# Altium footprint library PCB_Audio.PcbLib: 2 footprints
Each footprint in its own frame and in the unit in brackets; x right, y up, seen from the top. Pads: shape width x height; smd on the part's side, far side on the other; paste and mask are expansions set on the pad; w line width, h text height; cw(c..) or ccw(c..) is an arc to the next point about the centre after c.
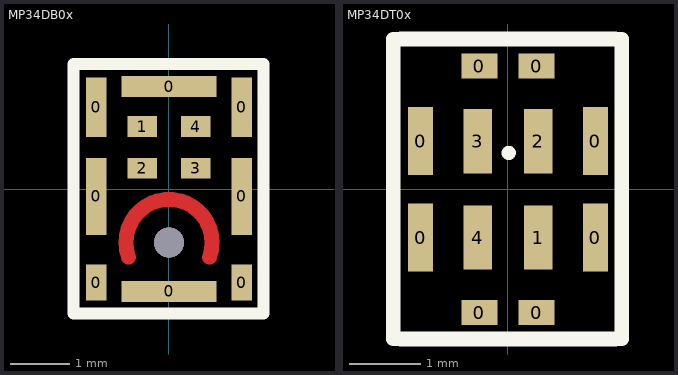
[diagram p0: the footprints below, top view; thin cyan lines are the x and y axes]

## MP34DB0x [mm] "ST MEMS microphone bottom hole 3*4mm series"
pads (12):
  rect 0.35x0.6 smd: 0(-1.225,-1.575) 0(1.225,-1.575)
  rect 0.35x1.3 smd: 0(-1.225,-0.125) 0(1.225,-0.125)
  rect 0.35x1 smd: 0(-1.225,1.375) 0(1.225,1.375)
  rect 1.6x0.35 smd: 0(0,-1.725) 0(0,1.725)
  rect 0.5x0.35 smd: 1(-0.45,1.05) 2(-0.45,0.35) 3(0.45,0.35) 4(0.45,1.05)
via 0,-0.9 diameter 0.5 hole 0.5
Top Layer:
  lines w0.25: -0.681,-1.148 cw(c0,-0.9) 0.681,-1.148
Top Overlay:
  lines w0.2: -1.608,-2 -1.608,-2.095 -1.5,-2.095 ; -1.608,2 -1.608,2.105 -1.5,2.105 ; 1.5,-2.095 1.592,-2.095 1.592,-2 ; 1.5,2.105 1.592,2.105 1.592,2
  lines w0.203: -1.608,-2 -1.608,2 ; -1.5,-2.095 1.5,-2.095 ; -1.5,2.105 1.5,2.105 ; 1.592,-2 1.592,2
3D body: height 1, standoff 0, extent -1.539,-2.022 1.509,2.042

## MP34DT0x [mm] "ST MEMS microphone top hole 3*4mm series"
pads (12):
  rect 0.35x0.95 smd: 0(-1.225,-0.675) 0(-1.225,0.675) 0(1.225,-0.675) 0(1.225,0.675)
  rect 0.5x0.35 smd: 0(-0.4,-1.725) 0(-0.4,1.725) 0(0.4,-1.725) 0(0.4,1.725)
  rect 0.4x0.9 smd: 1(0.425,-0.675) 2(0.425,0.675) 3(-0.425,0.675) 4(-0.425,-0.675)
Top Overlay:
  circle w0.1: c0.01,0.51 r0.05
  lines w0.2: -1.608,-2 -1.608,-2.095 -1.5,-2.095 ; -1.608,2 -1.608,2.105 -1.5,2.105 ; 1.5,-2.095 1.592,-2.095 1.592,-2 ; 1.5,2.105 1.592,2.105 1.592,2
  lines w0.203: -1.608,-2 -1.608,2 ; -1.5,-2.095 1.5,-2.095 ; -1.5,2.105 1.5,2.105 ; 1.592,-2 1.592,2
3D body: height 1, standoff 0, extent -1.539,-2.022 1.509,2.042